# Altium schematic symbol library TRIAC_0_pDboPackage_Copy_0000.Schlib: 1 symbol
Pins are listed as number, name and electrical type; pins without a type are passive.

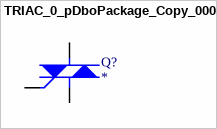
[diagram p0: symbol TRIAC_0_pDboPackage_Copy_0000]

## TRIAC_0_pDboPackage_Copy_0000
designator Q?
pins: 1 GATE, 2 ANODE1, 3 ANODE2